# Altium footprint library SMD DO.PcbLib: 5 footprints
Each footprint in its own frame and in the unit in brackets; x right, y up, seen from the top. Pads: shape width x height; smd on the part's side, far side on the other; paste and mask are expansions set on the pad; w line width, h text height; cw(c..) or ccw(c..) is an arc to the next point about the centre after c.
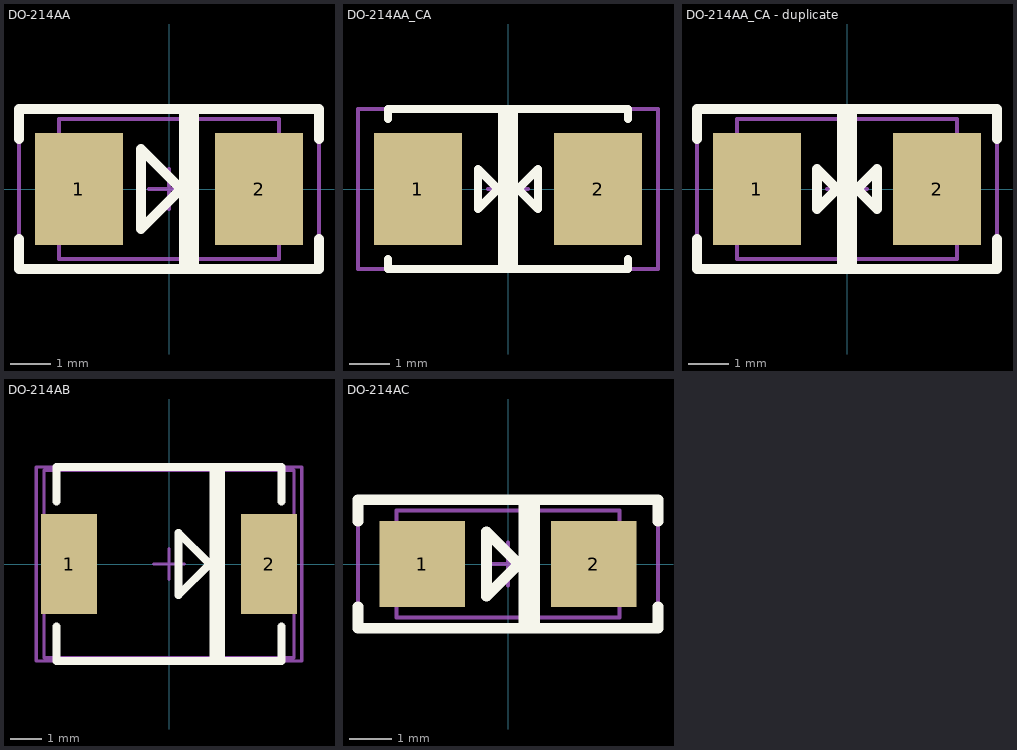
[diagram p0: the footprints below, top view; thin cyan lines are the x and y axes]

## DO-214AA [mm] "(SMB) Low profile package"
height 2.62
pads (2):
  rect 2.2x2.8 smd: 1(-2.25,0) 2(2.25,0)
Top Overlay:
  rectangle: 0.25,-2 0.75,2
  lines w0.25: -3.75,-1.25 -3.75,-2 3.75,-2 3.75,-1.25 ; -3.75,1.25 -3.75,2 3.75,2 3.75,1.25 ; -0.7,-1 0.3,0 -0.7,1 -0.7,-1
Mechanical 7:
  lines w0.05: -3.75,-2 -3.75,2 3.75,2 3.75,-2 -3.75,-2
  text ".Designator" at -2,-0.5 h1.5
Mechanical 13:
  lines w0.1: -2.75,-1.75 2.75,-1.75 2.75,1.75 -2.75,1.75 -2.75,-1.75
Mechanical 15:
  lines w0.1: -0.5,0 0.5,0 ; 0,-0.5 0,0.5 ; -3.75,-2 -3.75,2 3.75,2 3.75,-2 -3.75,-2
3D body "DO-214AA SMB Diode.step": height 2.3, standoff 0, extent -2.7,-1.8 2.7,1.8

## DO-214AA_CA [mm] "(SMB) Low profile package, Bidirectional"
height 2.62
pads (2):
  rect 2.2x2.8 smd: 1(-2.25,0) 2(2.25,0)
Top Overlay:
  rectangle: -0.25,-2 0.25,2
  lines w0.2: -3,-1.75 -3,-2 3,-2 3,-1.75 ; -3,1.75 -3,2 3,2 3,1.75 ; -0.75,-0.5 -0.25,0 -0.75,0.5 -0.75,-0.5 ; 0.25,0 0.75,0.5 0.75,-0.5 0.25,0
Mechanical 7:
  lines w0.05: -3.75,-2 3.75,-2 3.75,2 -3.75,2 -3.75,-2
  text ".Designator" at -2,-0.5 h1.5
Mechanical 15:
  lines w0.1: -0.5,0 0.5,0 ; 0,-0.5 0,0.5 ; -3.75,-2 3.75,-2 3.75,2 -3.75,2 -3.75,-2
3D body "DO-214AA SMB Diode.step": height 2.3, standoff 0, extent -2.7,-1.8 2.7,1.8

## DO-214AA_CA - duplicate [mm] "(SMB) Low profile package, Bidirectional"
height 2.62
pads (2):
  rect 2.2x2.8 smd: 1(-2.25,0) 2(2.25,0)
Top Overlay:
  rectangle: -0.25,-2 0.25,2
  lines w0.25: -3.75,-1.25 -3.75,-2 3.75,-2 3.75,-1.25 ; -3.75,1.25 -3.75,2 3.75,2 3.75,1.25 ; -0.75,-0.5 -0.25,0 -0.75,0.5 -0.75,-0.5 ; 0.25,0 0.75,0.5 0.75,-0.5 0.25,0
Mechanical 7:
  lines w0.05: -3.75,-2 3.75,-2 3.75,2 -3.75,2 -3.75,-2
  text ".Designator" at -2,-0.5 h1.5
Mechanical 13:
  lines w0.1: -2.75,-1.75 -2.75,1.75 2.75,1.75 2.75,-1.75 -2.75,-1.75
Mechanical 15:
  lines w0.1: -0.5,0 0.5,0 ; 0,-0.5 0,0.5 ; -3.75,-2 3.75,-2 3.75,2 -3.75,2 -3.75,-2
3D body "DO-214AA SMB Diode.step": height 2.3, standoff 0, extent -2.7,-1.8 2.7,1.8

## DO-214AB [mm] "(SMC) Low profile package"
height 2.62
pads (2):
  rect 1.8x3.2 smd: 1(-3.2,0) 2(3.2,0)
Top Overlay:
  rectangle: 1.3,-3.1 1.8,3.1
  lines w0.25: -3.6,-2 -3.6,-3.1 3.6,-3.1 3.6,-2 ; -3.6,2 -3.6,3.1 3.6,3.1 3.6,2 ; 0.3,-1 1.3,0 0.3,1 0.3,-1
Mechanical 7:
  lines w0.05: -4.25,-3.1 -4.25,3.1 4.25,3.1 4.25,-3.1 -4.25,-3.1
  text ".Designator" at -2,-0.5 h1.5
Mechanical 13:
  lines w0.1: -4,-3 -4,3 4,3 4,-3 -4,-3
Mechanical 15:
  lines w0.1: -0.5,0 0.5,0 ; 0,-0.5 0,0.5 ; -4.25,-3.1 -4.25,3.1 4.25,3.1 4.25,-3.1 -4.25,-3.1
3D body "User Library-DO-214AB SMC.step": height 2.3, standoff 0, extent -3.975,-2.95 3.975,2.95

## DO-214AC [mm] "(SMA) Low profile package"
height 2.62
pads (2):
  rect 2x2 smd: 1(-2,0) 2(2,0)
Top Overlay:
  rectangle: 0.25,-1.5 0.75,1.5
  lines w0.25: -3.5,-1 -3.5,-1.5 3.5,-1.5 3.5,-1 ; -3.5,1 -3.5,1.5 3.5,1.5 3.5,1 ; -0.5,-0.75 0.25,0 ; -0.5,-0.75 -0.5,-0.75 ; -0.5,-0.75 -0.5,0.75 0.25,0 ; 0.25,0 0.25,0
Mechanical 7:
  lines w0.05: -3.5,-1.5 3.5,-1.5 3.5,1.5 -3.5,1.5 -3.5,-1.5
  text ".Designator" at -2,-0.5 h1.5
Mechanical 13:
  lines w0.1: -2.6,-1.25 -2.6,1.25 2.6,1.25 2.6,-1.25 -2.6,-1.25
Mechanical 15:
  lines w0.1: -0.5,0 0.5,0 ; 0,-0.5 0,0.5 ; -3.5,-1.5 3.5,-1.5 3.5,1.5 -3.5,1.5 -3.5,-1.5
3D body "DO-214AC SMA Diode.step": height 2.4, standoff 0, extent -2.6,-1.3 2.6,1.3